# EAGLE library part AT90USB162-MU (library Atmel)
Atmel AT90USB82/162 in the QFN32 package
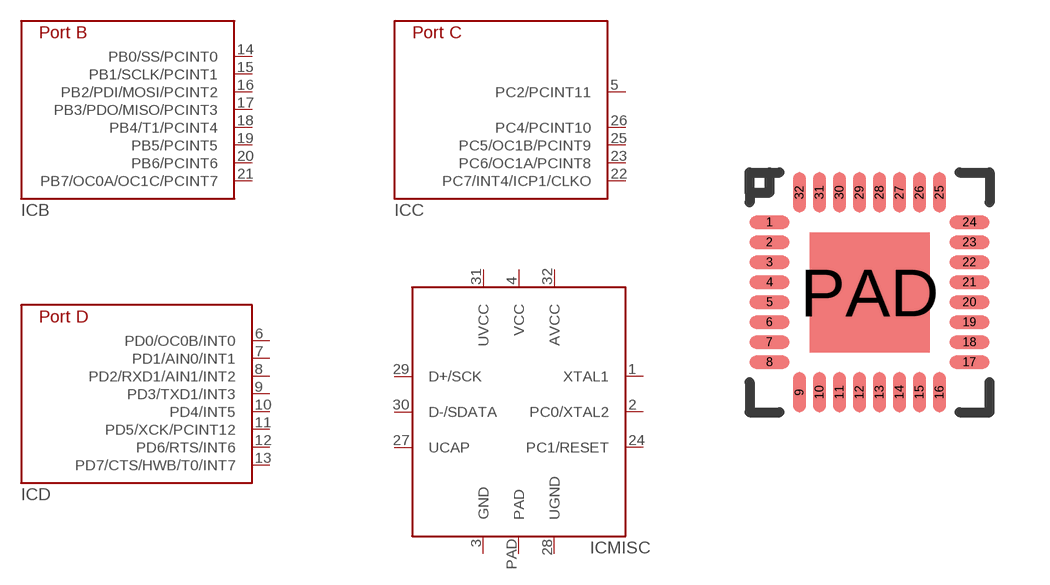
[diagram p8: symbol with the pads of QFN32; footprint QFN32]

Designator prefix IC; gates B=AT90USB162-B C=AT90USB162-C D=AT90USB162-D MISC=AT90USB162-MISC-PAD

## AT90USB162-MU  [QFN32]
1  MISC:XTAL1
2  MISC:PC0/XTAL2
3  MISC:GND
4  MISC:VCC
5  C:PC2/PCINT11
6  D:PD0/OC0B/INT0
7  D:PD1/AIN0/INT1
8  D:PD2/RXD1/AIN1/INT2
9  D:PD3/TXD1/INT3
10  D:PD4/INT5
11  D:PD5/XCK/PCINT12
12  D:PD6/RTS/INT6
13  D:PD7/CTS/HWB/T0/INT7
14  B:PB0/SS/PCINT0
15  B:PB1/SCLK/PCINT1
16  B:PB2/PDI/MOSI/PCINT2
17  B:PB3/PDO/MISO/PCINT3
18  B:PB4/T1/PCINT4
19  B:PB5/PCINT5
20  B:PB6/PCINT6
21  B:PB7/OC0A/OC1C/PCINT7
22  C:PC7/INT4/ICP1/CLKO
23  C:PC6/OC1A/PCINT8
24  MISC:PC1/RESET
25  C:PC5/OC1B/PCINT9
26  C:PC4/PCINT10
27  MISC:UCAP
28  MISC:UGND
29  MISC:D+/SCK
30  MISC:D-/SDATA
31  MISC:UVCC
32  MISC:AVCC
PAD  MISC:PAD  pwr

## Footprint QFN32 (pad centres in mm)
smd 1 x 0.32: 1 -2.5,1.75; 2 -2.5,1.25; 3 -2.5,0.75; 4 -2.5,0.25; 5 -2.5,-0.25; 6 -2.5,-0.75; 7 -2.5,-1.25; 8 -2.5,-1.75; 17 2.5,-1.75; 18 2.5,-1.25; 19 2.5,-0.75; 20 2.5,-0.25; 21 2.5,0.25; 22 2.5,0.75; 23 2.5,1.25; 24 2.5,1.75
smd 0.32 x 1: 9 -1.75,-2.5; 10 -1.25,-2.5; 11 -0.75,-2.5; 12 -0.25,-2.5; 13 0.25,-2.5; 14 0.75,-2.5; 15 1.25,-2.5; 16 1.75,-2.5; 25 1.75,2.5; 26 1.25,2.5; 27 0.75,2.5; 28 0.25,2.5; 29 -0.25,2.5; 30 -0.75,2.5; 31 -1.25,2.5; 32 -1.75,2.5
smd 3 x 3: PAD 0,0